# Altium footprint library Murata.PcbLib: 8 footprints
Each footprint in its own frame and in the unit in brackets; x right, y up, seen from the top. Pads: shape width x height; smd on the part's side, far side on the other; paste and mask are expansions set on the pad; w line width, h text height; cw(c..) or ccw(c..) is an arc to the next point about the centre after c.
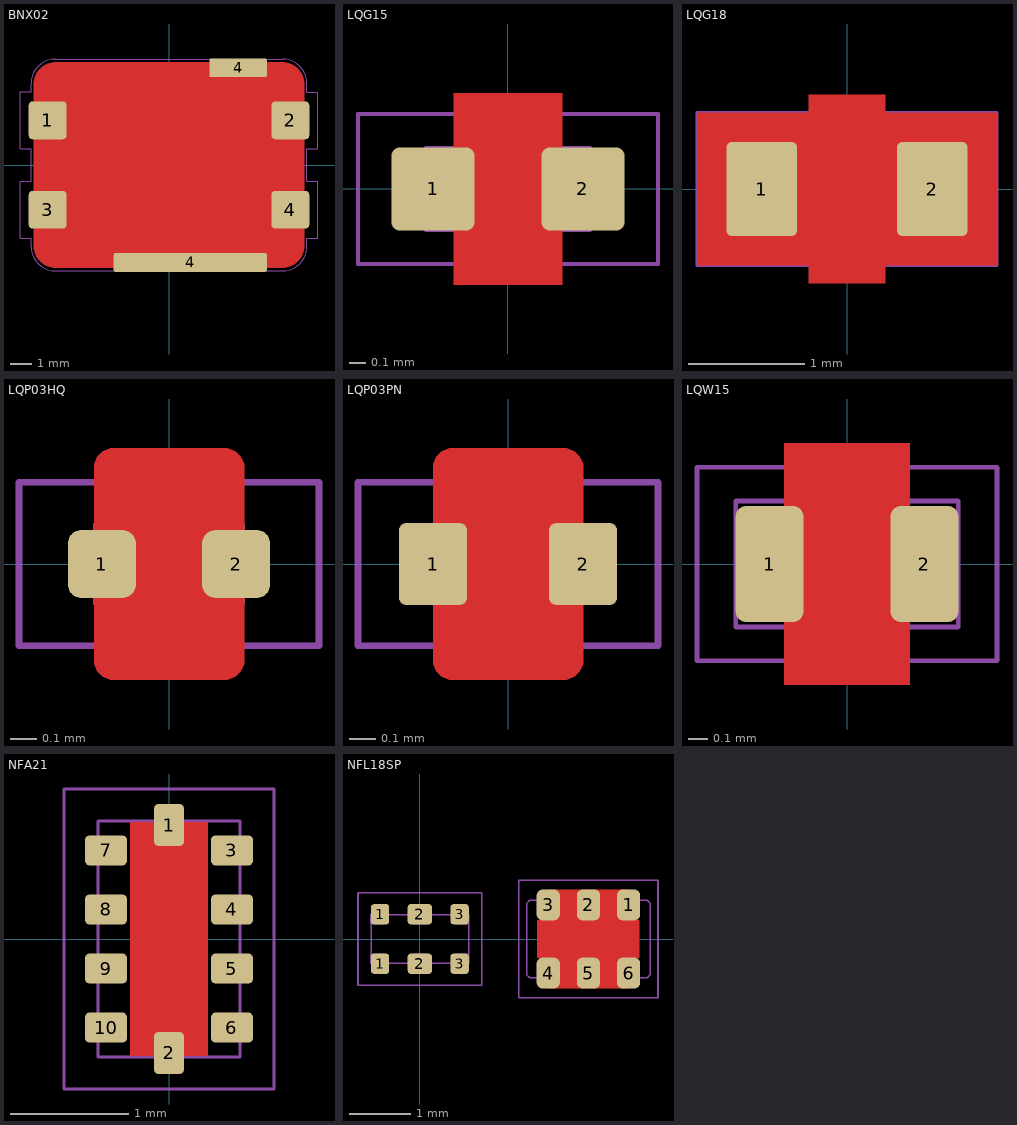
[diagram p0: the footprints below, top view; thin cyan lines are the x and y axes]

## BNX02 [mil]
pads (6):
  rrect20% 70x70 smd paste-2: 1(-224.41,82.68) 2(224.41,82.68) 3(-224.41,-82.68) 4(224.41,-82.68)
  rrect20% 283.46x35 smd paste+0: 4(39.37,-180)
  rrect20% 106.3x35 smd paste+0: 4(127.95,180)
Top Layer:
  pour cut-out: -210,190 -213.94,190 -221.67,188.46 -228.95,185.45 -235.5,181.07 -241.07,175.5 -245.45,168.95 -248.46,161.67 -250,153.94 -250,150 -250,-150 -250,-153.94 -248.46,-161.67 -245.45,-168.95 -241.07,-175.5 -235.5,-181.07 -228.95,-185.45 -221.67,-188.46 -213.94,-190 -210,-190 210,-190 213.94,-190 221.67,-188.46 228.95,-185.45 235.5,-181.07 241.07,-175.5 245.45,-168.95 248.46,-161.67 250,-153.94 250,-150 250,150 250,153.94 248.46,161.67 245.45,168.95 241.07,175.5 235.5,181.07 228.95,185.45 221.67,188.46 213.94,190 210,190
Top Component Outline:
  lines w1: -275,-135 -255,-135 -255,-150.94 ccw(c-210,-150.94) -210,-195.94 210,-195.94 ccw(c210,-150.94) 255,-150.94 255,-135.35 275,-135.35 275,-30.35 255,-30.35 255,30 275,30 275,135 255,135 255,150.94 ccw(c210,150.94) 210,195.94 -210,195.94 ccw(c-210,150.94) -255,150.94 -255,135.35 -275,135.35 -275,30.35 -255,30.35 -255,-30 -275,-30 -275,-135
Top 3D Body (Mech16):
  lines w1: -238.19,-108.27 -238.19,-57.09 -198.82,-57.09 -198.82,-108.27 -238.19,-108.27 ; -238.19,57.09 -198.82,57.09 -198.82,108.27 -238.19,108.27 -238.19,57.09 ; -236.22,-150.94 ccw(c-210,-150.94) -210,-177.17 210,-177.17 ccw(c210,-150.94) 236.22,-150.94 236.22,150.94 ccw(c210,150.94) 210,177.17 -210,177.17 ccw(c-210,150.94) -236.22,150.94 -236.22,-150.94 ; -98.43,-179.13 177.17,-179.13 177.17,-167.32 -98.43,-167.32 -98.43,-179.13 ; 78.74,167.32 78.74,179.13 177.17,179.13 177.17,167.32 78.74,167.32 ; 198.82,-108.27 238.19,-108.27 238.19,-57.09 198.82,-57.09 198.82,-108.27 ; 198.82,57.09 198.82,108.27 238.19,108.27 238.19,57.09 198.82,57.09
3D body: height 62.99, standoff 0, extent 198.82,-108.27 238.19,-57.09
3D body: height 62.99, standoff 0, extent 198.82,57.09 238.19,108.27
3D body: height 62.99, standoff 0, extent -238.19,-108.27 -198.82,-57.09
3D body: height 62.99, standoff 0, extent -238.19,57.09 -198.82,108.27
3D body: height 41.34, standoff 0, extent 78.74,167.32 177.17,179.13
3D body: height 41.34, standoff 0, extent -98.43,-179.13 177.17,-167.32
3D body: height 137.8, standoff 0, extent -236.22,-177.17 236.22,177.17

## LQG15 [mil]
pads (2):
  rrect20% 20x20 smd mask+2: 1(-18,0) 2(18,0)
Top Layer:
  pour cut-out: -13,23 13,23 13,-23 -13,-23
Top Solder:
  rectangle: -8,-18 8,18
  rectangle: -16,-12 16,12
Top Component Outline:
  lines w1: -36,-18 36,-18 36,18 -36,18 -36,-18
Top 3D Body (Mech16):
  lines w1: -9.84,-9.84 -9.84,9.84 ; 9.84,-9.84 9.84,9.84 ; -19.68,-9.84 -19.68,9.84 19.68,9.84 19.68,-9.84 -19.68,-9.84
3D body: height 19.81, standoff 19, extent -9,-9 0,9
3D body: height 20, standoff 0, extent -20,-10 -10,10
3D body: height 20, standoff 0, extent 10,-10 20,10
3D body: height 19.8, standoff 0.2, extent -19.68,-9.84 19.68,9.84

## LQG18 [mil]
pads (2):
  rrect15% 24x32 smd paste-2 mask+2: 1(-29,0) 2(29,0)
Top Layer:
  pour cut-out: -13,26 -51,26 -51,-26 -13,-26 -13,-32 13,-32 13,-26 51,-26 51,26 13,26 13,32 -13,32
Top Solder:
  rectangle: -8,-27 8,27
Top Component Outline:
  lines w1: -51,-26 51,-26 51,26 -51,26 -51,-26
Top 3D Body (Mech16):
  lines w1: -17.72,-15.75 -17.72,15.75 ; 17.72,-15.75 17.72,15.75 ; -31.5,-15.75 -31.5,15.75 31.5,15.75 31.5,-15.75 -31.5,-15.75
3D body: height 30, standoff 0, extent 18,-16 32,16
3D body: height 30, standoff 0, extent -32,-16 -18,16
3D body: height 29.8, standoff 0.2, extent -31.5,-15.75 31.5,15.75
3D body: height 29.81, standoff 29, extent -17,-14 0,14

## LQP03HQ [mil]
pads (2):
  rrect40% 10x10 smd paste+0 mask+1.5: 1(-9.84,0) 2(9.84,0)
Top Layer:
  pour cut-out: -8,17 -8.6,17 -9.7,16.54 -10.54,15.7 -11,14.6 -11,14 -11,-14 -11,-14.6 -10.54,-15.7 -9.7,-16.54 -8.6,-17 -8,-17 8,-17 8.6,-17 9.7,-16.54 10.54,-15.7 11,-14.6 11,-14 11,14 11,14.6 10.54,15.7 9.7,16.54 8.6,17 8,17
Top Solder:
  rectangle: -6,-12.1 6,12.1
  rectangle: -11,-6.5 11,6.5
Top Component Outline:
  lines w1: -22,-12 -22,12 22,12 22,-12 -22,-12
Top 3D Body (Mech16):
  lines w0.2: -11.02,-5.12 11.02,-5.12 ; -11.02,5.12 11.02,5.12 ; -11.81,-4.33 -11.81,4.33 -5.91,4.33 -5.91,-4.33 -11.81,-4.33 ; -11.02,-5.91 11.02,-5.91 11.02,5.91 -11.02,5.91 -11.02,-5.91 ; 5.91,-4.33 5.91,4.33 11.81,4.33 11.81,-4.33 5.91,-4.33
3D body: height 15.75, standoff 0.2, extent -11.02,-5.91 11.02,-5.12
3D body: height 15.75, standoff 0.2, extent -11.02,5.12 11.02,5.91
3D body: height 15.75, standoff 0.2, extent -11.02,-5.12 11.02,5.12
3D body: height 7.87, standoff 0, extent 5.91,-4.33 11.81,4.33
3D body: height 7.87, standoff 0, extent -11.81,-4.33 -5.91,4.33

## LQP03PN [mil]
pads (2):
  rrect20% 10x12 smd paste+0 mask+1.5: 1(-11,0) 2(11,0)
Top Layer:
  pour cut-out: -8,17 -8.6,17 -9.7,16.54 -10.54,15.7 -11,14.6 -11,14 -11,-14 -11,-14.6 -10.54,-15.7 -9.7,-16.54 -8.6,-17 -8,-17 8,-17 8.6,-17 9.7,-16.54 10.54,-15.7 11,-14.6 11,-14 11,14 11,14.6 10.54,15.7 9.7,16.54 8.6,17 8,17
Top Solder:
  rectangle: -6,-12 6,12
  rectangle: -11,-7.5 11,7.5
Top Component Outline:
  lines w1: -22,-12 22,-12 22,12 -22,12 -22,-12
Top 3D Body (Mech16):
  lines w0.2: -7.87,-5.91 -7.87,5.91 ; 7.87,-5.91 7.87,5.91 ; -11.81,-5.91 -11.81,5.91 11.81,5.91 11.81,-5.91 -11.81,-5.91
3D body: height 12, standoff 0, extent -12,-6 -6,6
3D body: height 12, standoff 0, extent 6,-6 12,6
3D body: height 11.5, standoff 11, extent -11.81,-5.91 11.81,5.91
3D body: height 11, standoff 0.2, extent -11.81,-5.91 11.81,5.91
3D body: height 12, standoff 11.77, extent -4.98,-1.99 -0.99,2

## LQW15 [mil]
pads (2):
  rrect30% 14x24 smd mask+2: 1(-16,0) 2(16,0)
Top Layer:
  pour cut-out: -13,25 13,25 13,-25 -13,-25
Top Solder:
  rectangle: -16,-14 16,14
  rectangle: -8,-20 8,20
Top Component Outline:
  lines w1: -31,-20 31,-20 31,20 -31,20 -31,-20
Top 3D Body (Mech16):
  lines w1: -23,-13 23,-13 23,13 -23,13 -23,-13
3D body: height 19, standoff 0, extent 13,-11 21,11
3D body: height 18, standoff 5, extent -20,-10 20,10
3D body: height 19, standoff 0, extent -21,-11 -13,11
3D body: height 20, standoff 15, extent -23,-13 23,13
3D body: height 20.5, standoff 20, extent -15,-2.5 -10,2.5

## NFA21 [mil] "NF: Noise Filter"
pads (10):
  rrect30% 10x14 smd mask+1.5: 1(0,38) 2(0,-38)
  rrect30% 14x10 smd mask+1.5: 3(21,29.53) 4(21,9.84) 5(21,-9.84) 6(21,-29.53) 7(-21,29.53) 8(-21,9.84) 9(-21,-9.84) 10(-21,-29.53)
Top Layer:
  pour cut-out: -13,39 13,39 13,-39 -13,-39
Top Solder:
  rectangle: 1,-18 7,18
Top Component Outline:
  lines w1: -35,-50 -35,50 35,50 35,-50 -35,-50
Top 3D Body (Mech16):
  lines w1: -23.62,-39.37 -23.62,39.37 23.62,39.37 23.62,-39.37 -23.62,-39.37
3D body: height 24, standoff 0, extent -4.47,-39.75 4.53,-31.75
3D body: height 24, standoff 0, extent -4.53,31.75 4.47,39.75
3D body: height 23.62, standoff 0, extent -23.62,-39.37 23.62,39.37
3D body: height 24, standoff 0, extent -24,25 -16,34
3D body: height 24, standoff 0, extent -24,5.31 -16,14.31
3D body: height 24, standoff 0, extent -24,-14.37 -16,-5.37
3D body: height 24, standoff 0, extent -24,-34.06 -16,-25.06
3D body: height 24, standoff 0, extent 16,25.06 24,34.06
3D body: height 24, standoff 0, extent 16,5.37 24,14.37
3D body: height 24, standoff 0, extent 16,-14.31 24,-5.31
3D body: height 24, standoff 0, extent 16,-34 24,-25
3D body: height 24, standoff 23, extent 5,-24 12,24

## NFL18SP [mil] "NFL18SP Noise Filter"
pads (12):
  rrect30% 11.81x13 smd mask+2: 1(-25.72,-16) 1(-25.72,16) 3(25.72,-16) 3(25.72,16)
  rrect50% 15x20 smd paste+0 mask+2: 1(135,22) 2(109,22) 3(83,22) 4(83,-22) 5(109,-22) 6(135,-22)
  rrect30% 15.75x13 smd mask+2: 2(0,-16) 2(0,16)
Top Layer:
  pour cut-out: 76,-12 83,-12 83,-32 135,-32 135,-12 142,-12 142,12 135,12 135,32 83,32 83,12 76,12
Top Solder:
  region: 124,5 124,-5 134,-5 134,5
Top Component Outline:
  lines w1: -40,-30 40,-30 40,30 -40,30 -40,-30 ; 64,-38 64,38 154,38 154,-38 64,-38
Top 3D Body (Mech16):
  lines w1: -31.5,15.75 31.5,15.75 ; -31.5,15.75 -31.5,-15.75 31.5,-15.75 31.5,15.75 ; -31.5,15.75 31.5,15.75 ; -31.75,-16 -19.68,-16 -23.62,-9.84 -31.73,-9.84 -31.75,-16 ; -31.73,9.84 -23.62,9.84 -19.68,16 -31.75,16 -31.75,9.84 ; -7.87,-16 -3.94,-9.84 3.94,-9.84 7.87,-16 -7.87,-16 ; -7.87,16 7.87,16 3.94,9.84 -3.94,9.84 -7.87,16 ; 19.68,-16 23.62,-9.84 31.73,-9.84 31.75,-16 19.68,-16 ; 19.68,16 23.62,9.84 31.73,9.84 31.75,16 19.68,16 ; 69,-23 71,-25 147,-25 149,-23 149,23 147,25 71,25 69,23 69,-23
3D body: height 37.44, standoff 0, extent 116.5,-8 141.5,8
3D body: height 37.8, standoff 0, extent 102,-26 116,-18
3D body: height 37.8, standoff 0, extent 76,-26 90,-18
3D body: height 37.8, standoff 0, extent 128,-26 142,-18
3D body: height 37.8, standoff 0, extent 76,18 90,26
3D body: height 37.8, standoff 0, extent 128,18 142,26
3D body: height 37.4, standoff 1, extent 69,-25 149,25
3D body: height 37.8, standoff 0, extent 102,18 116,26
3D body: height 24, standoff 0, extent -31.73,10 -19.68,16
3D body: height 24, standoff 0, extent -7.31,9.84 7.87,15.84
3D body: height 24, standoff 0, extent 19.68,10 31.76,16
3D body: height 24, standoff 0, extent -31.76,-16 -19.68,-10
3D body: height 24, standoff 0, extent -7.87,-15.84 7.31,-9.84
3D body: height 24, standoff 0, extent 19.68,-16 31.73,-10
3D body: height 23.62, standoff 0, extent -31.5,-15.75 31.5,15.75